# Altium schematic symbol library CH9344.SchLib: 1 symbol
Pins are listed as number, name and electrical type; pins without a type are passive.

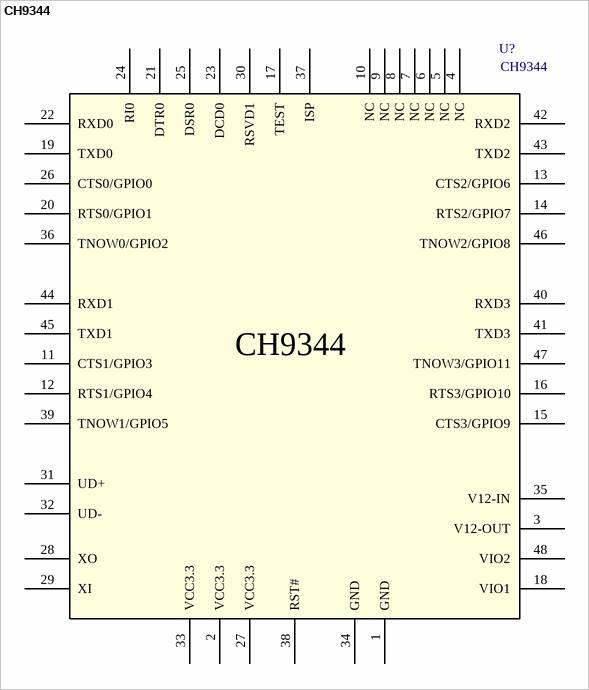
[diagram p0: symbol CH9344]

## CH9344
designator U?
USB To Quad UARTs Chip; Mfr_Name: Texas Instruments; RefDes: RefDes; Type: Type
footprint PT48
pins: 1 GND, 2 VCC3.3, 3 V12-OUT, 4 NC, 5 NC, 6 NC, 7 NC, 8 NC, 9 NC, 10 NC, 11 CTS1/GPIO3, 12 RTS1/GPIO4, 13 CTS2/GPIO6, 14 RTS2/GPIO7, 15 CTS3/GPIO9, 16 RTS3/GPIO10, 17 TEST, 18 VIO1, 19 TXD0, 20 RTS0/GPIO1, 21 DTR0, 22 RXD0, 23 DCD0, 24 RI0, 25 DSR0, 26 CTS0/GPIO0, 27 VCC3.3, 28 XO, 29 XI, 30 RSVD1, 31 UD+, 32 UD-, 33 VCC3.3, 34 GND, 35 V12-IN, 36 TNOW0/GPIO2, 37 ISP, 38 RST#, 39 TNOW1/GPIO5, 40 RXD3, 41 TXD3, 42 RXD2, 43 TXD2, 44 RXD1, 45 TXD1, 46 TNOW2/GPIO8, 47 TNOW3/GPIO11, 48 VIO2